# Altium schematic symbol library Castellated_Hole.SchLib: 1 symbol
Pins are listed as number, name and electrical type; pins without a type are passive.

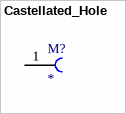
[diagram p0: symbol Castellated_Hole]

## Castellated_Hole
designator M?
pins: 1